# Altium footprint library LT-T-5-S.PcbLib: 1 footprints
Each footprint in its own frame and in the unit in brackets; x right, y up, seen from the top. Pads: shape width x height; smd on the part's side, far side on the other; paste and mask are expansions set on the pad; w line width, h text height; cw(c..) or ccw(c..) is an arc to the next point about the centre after c.
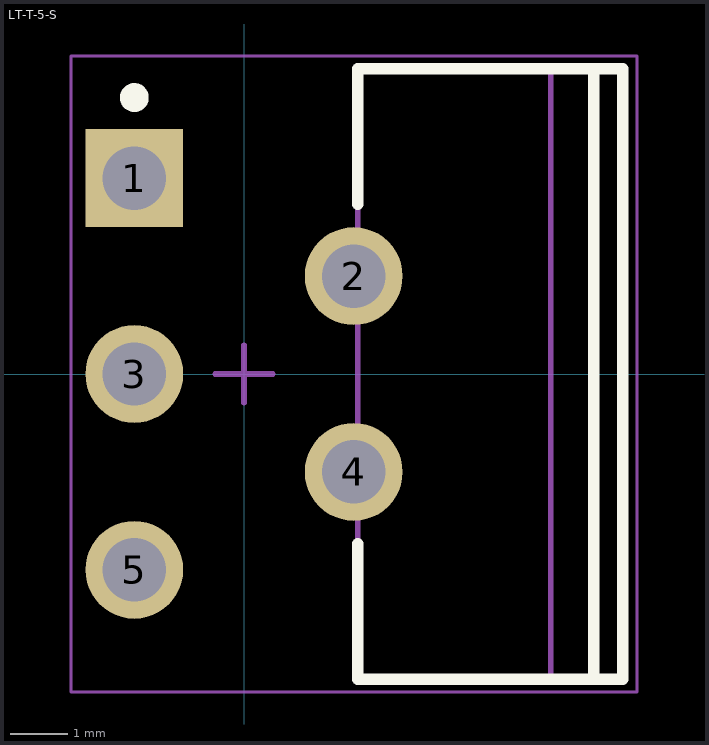
[diagram p0: the footprint, top view; thin cyan lines are the x and y axes]

## LT-T-5-S [mm] "FM, 5-Leads, Body 10.2235x4.3815mm, Pitch 1.7mm"
height 22.23
pads (5):
  rect 1.7x1.7 hole 1.1: 1(-1.905,3.4)
  round 1.7 hole 1.1: 2(1.905,1.7) 3(-1.905,0) 4(1.905,-1.7) 5(-1.905,-3.4)
Top Overlay:
  circle w0.25: c-1.905,4.8 r0.125
  lines w0.2: 1.975,-2.95 1.975,-5.3 6.575,-5.3 6.575,5.3 1.975,5.3 1.975,2.95 ; 6.075,-5.3 6.075,5.3
Mechanical 13:
  lines w0.1: 5.325,-5.275 5.325,5.275 ; 1.975,-5.275 1.975,5.275 6.575,5.275 6.575,-5.275 1.975,-5.275
Mechanical 15:
  lines w0.05: -3.005,-5.525 -3.005,5.525 6.825,5.525 6.825,-5.525 -3.005,-5.525
  lines w0.1: -0.5,0 0.5,0 ; 0,-0.5 0,0.5
3D body: height 1.84, standoff 0, extent -2.135,2.8 -1.675,4
3D body: height 2.3, standoff 1.84, extent -2.135,2.8 4.505,4
3D body: height 4.14, standoff 2.3, extent 4.045,2.8 4.505,4
3D body: height 0, standoff -1.6, extent -2.135,2.98 -1.675,3.82
3D body: height 1.84, standoff 0, extent 1.675,1.1 2.135,2.3
3D body: height 2.3, standoff 1.84, extent 1.675,1.1 4.505,2.3
3D body: height 4.14, standoff 2.3, extent 4.045,1.1 4.505,2.3
3D body: height 0, standoff -1.6, extent 1.675,1.28 2.135,2.12
3D body: height 1.84, standoff 0, extent -2.135,-0.6 -1.675,0.6
3D body: height 2.3, standoff 1.84, extent -2.135,-0.6 4.505,0.6
3D body: height 4.14, standoff 2.3, extent 4.045,-0.6 4.505,0.6
3D body: height 0, standoff -1.6, extent -2.135,-0.42 -1.675,0.42
3D body: height 1.84, standoff 0, extent 1.675,-2.3 2.135,-1.1
3D body: height 2.3, standoff 1.84, extent 1.675,-2.3 4.505,-1.1
3D body: height 4.14, standoff 2.3, extent 4.045,-2.3 4.505,-1.1
3D body: height 0, standoff -1.6, extent 1.675,-2.12 2.135,-1.28
3D body: height 1.84, standoff 0, extent -2.135,-4 -1.675,-2.8
3D body: height 2.3, standoff 1.84, extent -2.135,-4 4.505,-2.8
3D body: height 4.14, standoff 2.3, extent 4.045,-4 4.505,-2.8
3D body: height 0, standoff -1.6, extent -2.135,-3.82 -1.675,-2.98
3D body: height 15.88, standoff 4.14, extent 1.975,-5.275 6.575,5.275
3D body: height 17.41, standoff 15.88, extent 5.325,-5.275 6.575,5.275
3D body: height 17.45, standoff 17.41, extent 5.325,0.376 6.575,5.275
3D body: height 17.45, standoff 17.41, extent 5.325,-5.275 6.575,-0.376
3D body: height 21.26, standoff 21.22, extent 5.325,0.376 6.575,5.275
3D body: height 21.26, standoff 21.22, extent 5.325,-5.275 6.575,-0.376
3D body: height 17.56, standoff 17.44, extent 5.325,0.737 6.575,5.275
3D body: height 17.56, standoff 17.44, extent 5.325,-5.275 6.575,-0.737
3D body: height 21.22, standoff 21.11, extent 5.325,0.737 6.575,5.275
3D body: height 21.22, standoff 21.11, extent 5.325,-5.275 6.575,-0.737
3D body: height 17.73, standoff 17.55, extent 5.325,1.069 6.575,5.275
3D body: height 17.73, standoff 17.55, extent 5.325,-5.275 6.575,-1.069
3D body: height 21.11, standoff 20.93, extent 5.325,1.069 6.575,5.275
3D body: height 21.11, standoff 20.93, extent 5.325,-5.275 6.575,-1.069
3D body: height 17.97, standoff 17.73, extent 5.325,1.361 6.575,5.275
3D body: height 17.97, standoff 17.73, extent 5.325,-5.275 6.575,-1.361
3D body: height 20.94, standoff 20.69, extent 5.325,1.361 6.575,5.275
3D body: height 20.94, standoff 20.69, extent 5.325,-5.275 6.575,-1.361
3D body: height 18.27, standoff 17.97, extent 5.325,1.601 6.575,5.275
3D body: height 18.27, standoff 17.97, extent 5.325,-5.275 6.575,-1.601
3D body: height 20.7, standoff 20.4, extent 5.325,1.601 6.575,5.275
3D body: height 20.7, standoff 20.4, extent 5.325,-5.275 6.575,-1.601
3D body: height 18.6, standoff 18.26, extent 5.325,1.778 6.575,5.275
3D body: height 18.6, standoff 18.26, extent 5.325,-5.275 6.575,-1.778
3D body: height 20.4, standoff 20.07, extent 5.325,1.778 6.575,5.275
3D body: height 20.4, standoff 20.07, extent 5.325,-5.275 6.575,-1.778
3D body: height 18.96, standoff 18.59, extent 5.325,1.888 6.575,5.275
3D body: height 18.96, standoff 18.59, extent 5.325,-5.275 6.575,-1.888
3D body: height 20.07, standoff 19.71, extent 5.325,1.888 6.575,5.275
3D body: height 20.07, standoff 19.71, extent 5.325,-5.275 6.575,-1.888
3D body: height 19.33, standoff 18.95, extent 5.325,1.925 6.575,5.275
3D body: height 19.33, standoff 18.95, extent 5.325,-5.275 6.575,-1.925
3D body: height 19.71, standoff 19.33, extent 5.325,1.925 6.575,5.275
3D body: height 19.71, standoff 19.33, extent 5.325,-5.275 6.575,-1.925
3D body: height 22.23, standoff 21.26, extent 5.325,-5.275 6.575,5.275